# Altium schematic symbol library LPC4300.SCHLIB: 5 symbols
Pins are listed as number, name and electrical type; pins without a type are passive.

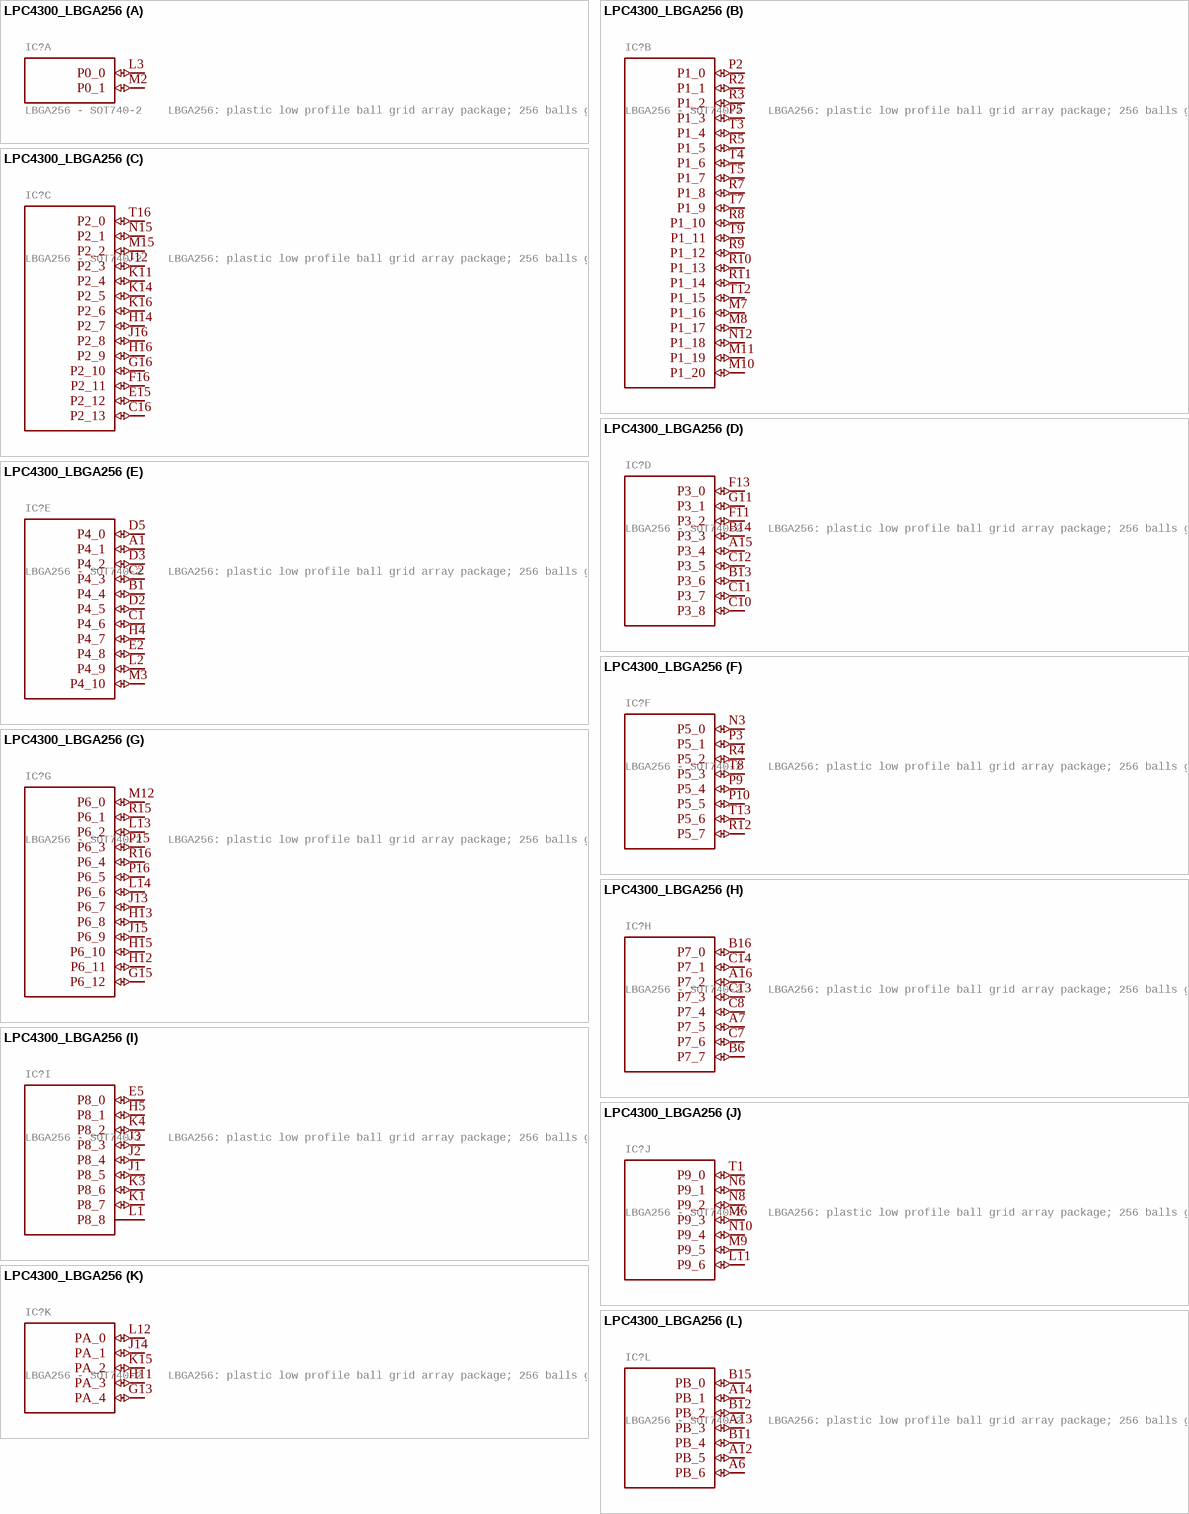
[diagram p0: symbol LPC4300_LBGA256]

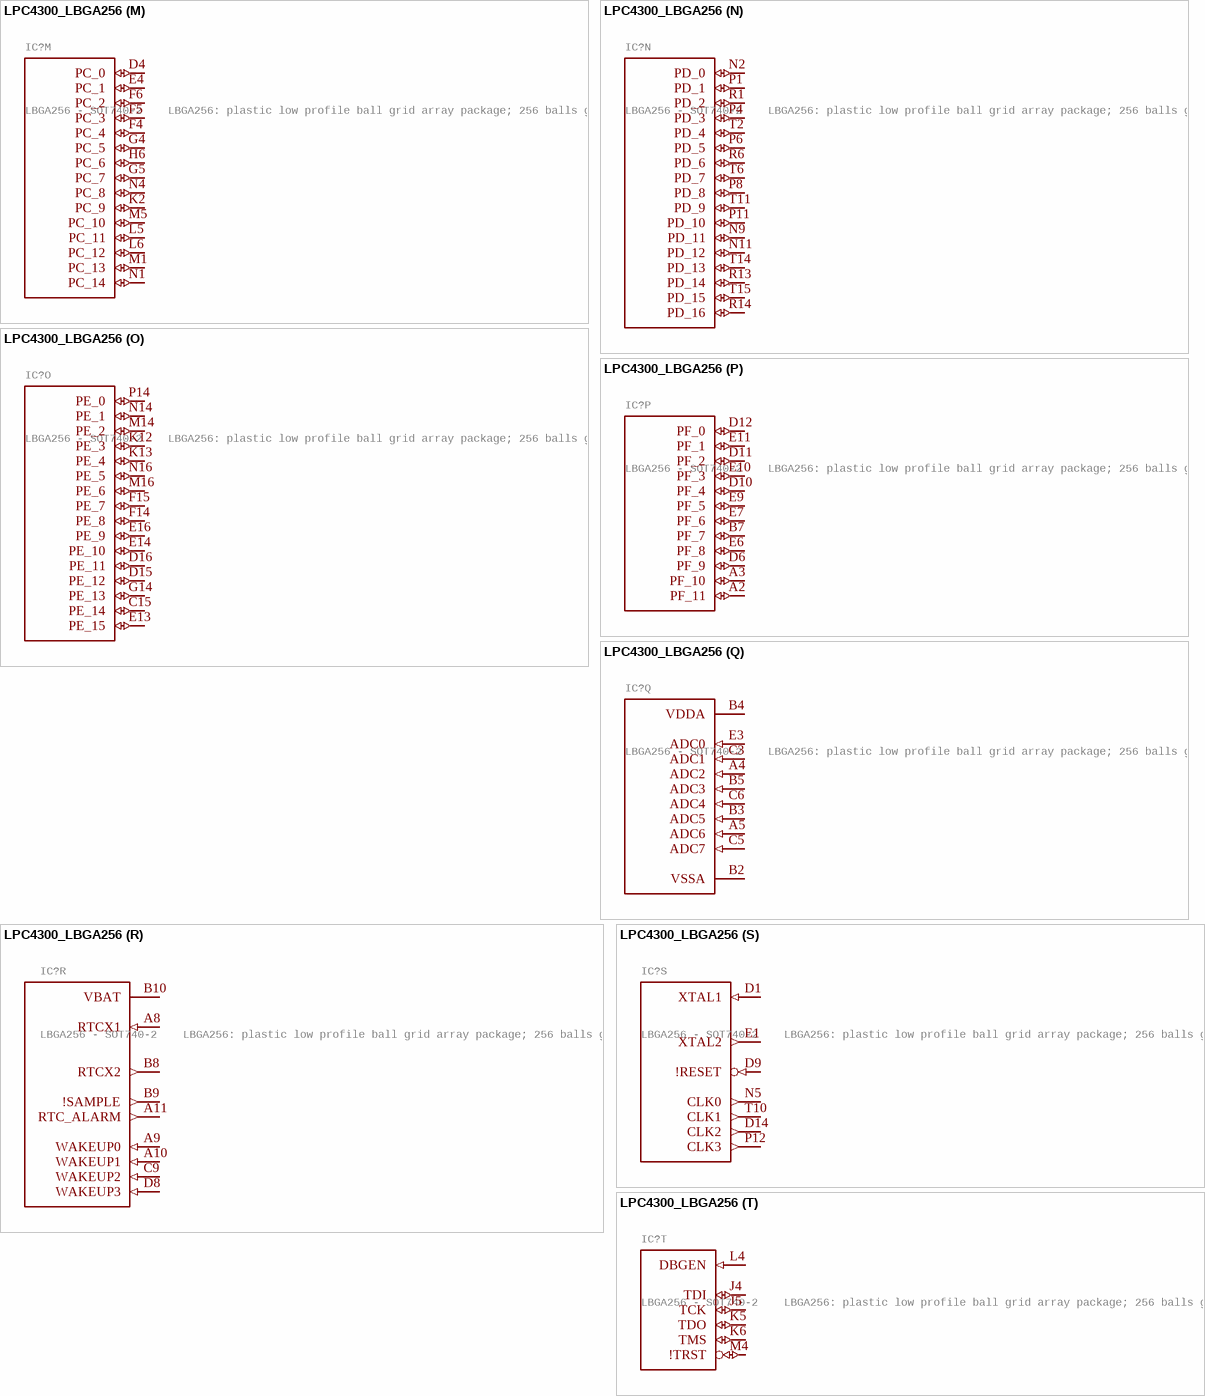
[diagram p1: symbol LPC4300_LBGA256]

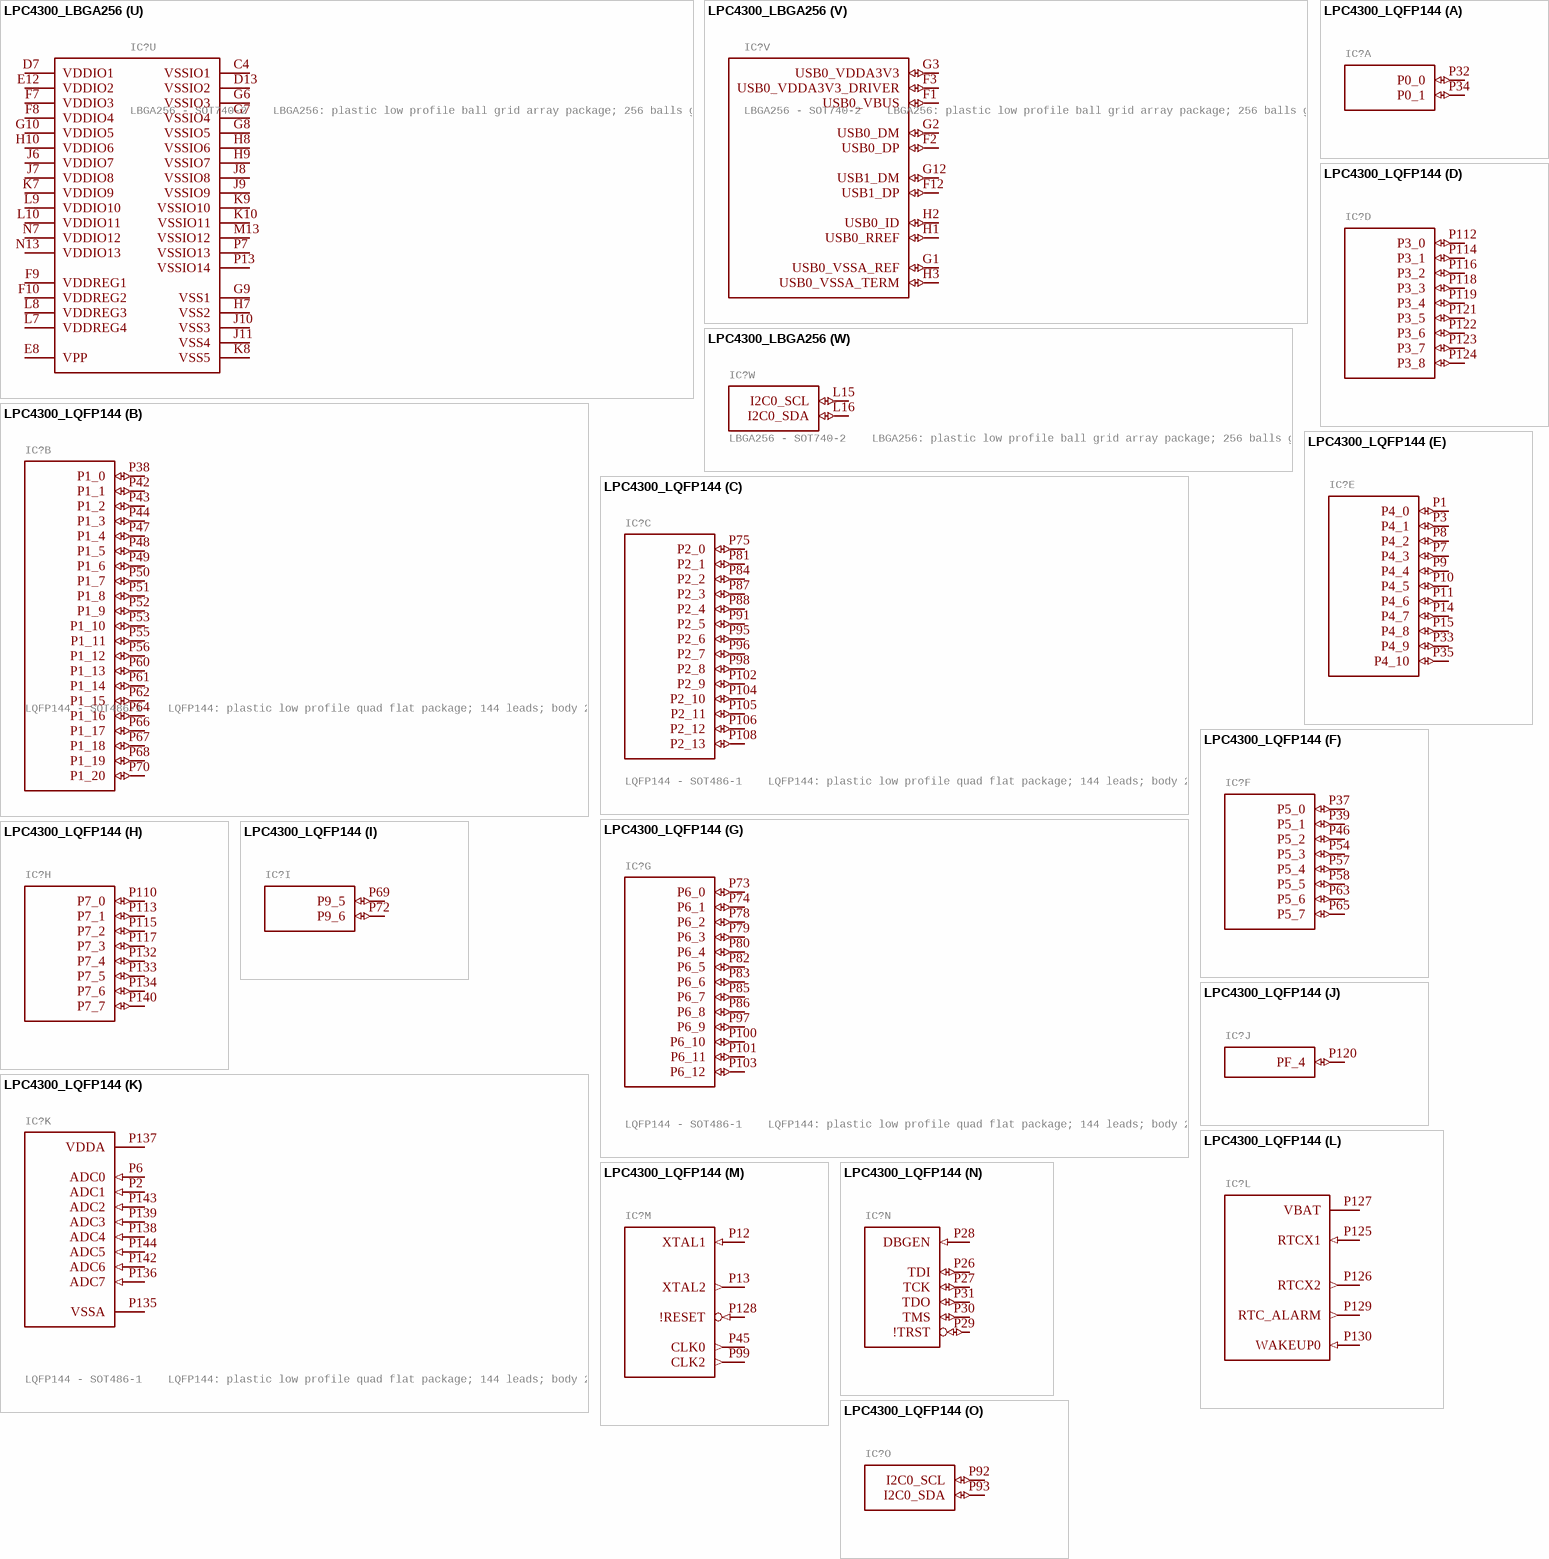
[diagram p2: symbols LPC4300_LBGA256 to LPC4300_LQFP144]

## LPC4300_LBGA256
designator IC?, comment LBGA256 - SOT740-2    LBGA256: plastic low profile ball grid array package; 256 balls grid 1 * 1 mm;    body 17 * 17 mm;   Solderland 0.45 mm diameter
GateName_1: G$1; SymbolName_1: LPC4300_0_PORT0; GateName_2: G$2; SymbolName_2: LPC4300_1_PORT1; GateName_3: G$3; SymbolName_3: LPC4300_2_PORT2; GateName_4: G$4; SymbolName_4: LPC4300_3_PORT3; GateName_5: G$5; SymbolName_5: LPC4300_4_PORT4; GateName_6: G$6; SymbolName_6: LPC4300_5_PORT5; GateName_7: G$7; SymbolName_7: LPC4300_6_PORT6; GateName_8: G$8; SymbolName_8: LPC4300_7_PORT7; GateName_9: G$9; SymbolName_9: LPC4300_8_PORT8; GateName_10: G$10; SymbolName_10: LPC4300_9_PORT9; GateName_11: G$11; SymbolName_11: LPC4300_10_PORTA; GateName_12: G$12; SymbolName_12: LPC4300_11_PORTB; GateName_13: G$13; SymbolName_13: LPC4300_12_PORTC; GateName_14: G$14; SymbolName_14: LPC4300_13_PORTD; GateName_15: G$15; SymbolName_15: LPC4300_14_PORTE; GateName_16: G$16; SymbolName_16: LPC4300_15_PORTF; GateName_17: G$17; SymbolName_17: LPC4300_16_ANA; GateName_18: G$18; SymbolName_18: LPC4300_17_RTC; GateName_19: G$19; SymbolName_19: LPC4300_18_CLK; GateName_20: G$20; SymbolName_20: LPC4300_19_DBUG; GateName_21: G$21; SymbolName_21: LPC4300_21_SUP; GateName_22: G$22; SymbolName_22: LPC4300_22_USB; GateName_23: G$23; SymbolName_23: LPC4300_20_I2C; DeviceSetName: LPC4300_LBGA256; LibraryName: LPC4300; Package: LBGA256
footprint LBGA256
part A pins: L3 P0_0 (io), M2 P0_1 (io)
part B pins: M7 P1_16 (io), M8 P1_17 (io), M10 P1_20 (io), M11 P1_19 (io), N12 P1_18 (io), P2 P1_0 (io), P5 P1_3 (io), R2 P1_1 (io), R3 P1_2 (io), R5 P1_5 (io), R7 P1_8 (io), R8 P1_10 (io), R9 P1_12 (io), R10 P1_13 (io), R11 P1_14 (io), T3 P1_4 (io), T4 P1_6 (io), T5 P1_7 (io), T7 P1_9 (io), T9 P1_11 (io), T12 P1_15 (io)
part C pins: C16 P2_13 (io), E15 P2_12 (io), F16 P2_11 (io), G16 P2_10 (io), H14 P2_7 (io), H16 P2_9 (io), J12 P2_3 (io), J16 P2_8 (io), K11 P2_4 (io), K14 P2_5 (io), K16 P2_6 (io), M15 P2_2 (io), N15 P2_1 (io), T16 P2_0 (io)
part D pins: A15 P3_4 (io), B13 P3_6 (io), B14 P3_3 (io), C10 P3_8 (io), C11 P3_7 (io), C12 P3_5 (io), F11 P3_2 (io), F13 P3_0 (io), G11 P3_1 (io)
part E pins: A1 P4_1 (io), B1 P4_4 (io), C1 P4_6 (io), C2 P4_3 (io), D2 P4_5 (io), D3 P4_2 (io), D5 P4_0 (io), E2 P4_8 (io), H4 P4_7 (io), L2 P4_9 (io), M3 P4_10 (io)
part F pins: N3 P5_0 (io), P3 P5_1 (io), P9 P5_4 (io), P10 P5_5 (io), R4 P5_2 (io), R12 P5_7 (io), T8 P5_3 (io), T13 P5_6 (io)
part G pins: G15 P6_12 (io), H12 P6_11 (io), H13 P6_8 (io), H15 P6_10 (io), J13 P6_7 (io), J15 P6_9 (io), L13 P6_2 (io), L14 P6_6 (io), M12 P6_0 (io), P15 P6_3 (io), P16 P6_5 (io), R15 P6_1 (io), R16 P6_4 (io)
part H pins: A7 P7_5 (io), A16 P7_2 (io), B6 P7_7 (io), B16 P7_0 (io), C7 P7_6 (io), C8 P7_4 (io), C13 P7_3 (io), C14 P7_1 (io)
part I pins: E5 P8_0 (io), H5 P8_1 (io), J1 P8_5 (io), J2 P8_4 (io), J3 P8_3 (io), K1 P8_7 (io), K3 P8_6 (io), K4 P8_2 (io), L1 P8_8 (power)
part J pins: L11 P9_6 (io), M6 P9_3 (io), M9 P9_5 (io), N6 P9_1 (io), N8 P9_2 (io), N10 P9_4 (io), T1 P9_0 (io)
part K pins: G13 PA_4 (io), H11 PA_3 (io), J14 PA_1 (io), K15 PA_2 (io), L12 PA_0 (io)
part L pins: A6 PB_6 (io), A12 PB_5 (io), A13 PB_3 (io), A14 PB_1 (io), B11 PB_4 (io), B12 PB_2 (io), B15 PB_0 (io)
part M pins: D4 PC_0 (io), E4 PC_1 (io), F4 PC_4 (io), F5 PC_3 (io), F6 PC_2 (io), G4 PC_5 (io), G5 PC_7 (io), H6 PC_6 (io), K2 PC_9 (io), L5 PC_11 (io), L6 PC_12 (io), M1 PC_13 (io), M5 PC_10 (io), N1 PC_14 (io), N4 PC_8 (io)
part N pins: N2 PD_0 (io), N9 PD_11 (io), N11 PD_12 (io), P1 PD_1 (io), P4 PD_3 (io), P6 PD_5 (io), P8 PD_8 (io), P11 PD_10 (io), R1 PD_2 (io), R6 PD_6 (io), R13 PD_14 (io), R14 PD_16 (io), T2 PD_4 (io), T6 PD_7 (io), T11 PD_9 (io), T14 PD_13 (io), T15 PD_15 (io)
part O pins: C15 PE_14 (io), D15 PE_12 (io), D16 PE_11 (io), E13 PE_15 (io), E14 PE_10 (io), E16 PE_9 (io), F14 PE_8 (io), F15 PE_7 (io), G14 PE_13 (io), K12 PE_3 (io), K13 PE_4 (io), M14 PE_2 (io), M16 PE_6 (io), N14 PE_1 (io), N16 PE_5 (io), P14 PE_0 (io)
part P pins: A2 PF_11 (io), A3 PF_10 (io), B7 PF_7 (io), D6 PF_9 (io), D10 PF_4 (io), D11 PF_2 (io), D12 PF_0 (io), E6 PF_8 (io), E7 PF_6 (io), E9 PF_5 (io), E10 PF_3 (io), E11 PF_1 (io)
part Q pins: A4 ADC2 (in), A5 ADC6 (in), B2 VSSA (power), B3 ADC5 (in), B4 VDDA (power), B5 ADC3 (in), C3 ADC1 (in), C5 ADC7 (in), C6 ADC4 (in), E3 ADC0 (in)
part R pins: A8 RTCX1 (in), A9 WAKEUP0 (in), A10 WAKEUP1 (in), A11 RTC_ALARM (out), B8 RTCX2 (out), B9 !SAMPLE (out), B10 VBAT (power), C9 WAKEUP2 (in), D8 WAKEUP3 (in)
part S pins: D1 XTAL1 (in), D9 !RESET (in), D14 CLK2 (out), E1 XTAL2 (out), N5 CLK0 (out), P12 CLK3 (out), T10 CLK1 (out)
part T pins: J4 TDI (io), J5 TCK (io), K5 TDO (io), K6 TMS (io), L4 DBGEN (in), M4 !TRST (io)
part U pins: C4 VSSIO1 (power), D7 VDDIO1 (power), D13 VSSIO2 (power), E8 VPP (power), E12 VDDIO2 (power), F7 VDDIO3 (power), F8 VDDIO4 (power), F9 VDDREG1 (power), F10 VDDREG2 (power), G6 VSSIO3 (power), G7 VSSIO4 (power), G8 VSSIO5 (power), G9 VSS1 (power), G10 VDDIO5 (power), H7 VSS2 (power), H8 VSSIO6 (power), H9 VSSIO7 (power), H10 VDDIO6 (power), J6 VDDIO7 (power), J7 VDDIO8 (power), J8 VSSIO8 (power), J9 VSSIO9 (power), J10 VSS3 (power), J11 VSS4 (power), K7 VDDIO9 (power), K8 VSS5 (power), K9 VSSIO10 (power), K10 VSSIO11 (power), L7 VDDREG4 (power), L8 VDDREG3 (power), L9 VDDIO10 (power), L10 VDDIO11 (power), M13 VSSIO12 (power), N7 VDDIO12 (power), N13 VDDIO13 (power), P7 VSSIO13 (power), P13 VSSIO14 (power)
part V pins: F1 USB0_VBUS (io), F2 USB0_DP (io), F3 USB0_VDDA3V3_DRIVER (io), F12 USB1_DP (io), G1 USB0_VSSA_REF (io), G2 USB0_DM (io), G3 USB0_VDDA3V3 (io), G12 USB1_DM (io), H1 USB0_RREF (io), H2 USB0_ID (io), H3 USB0_VSSA_TERM (io)
part W pins: L15 I2C0_SCL (io), L16 I2C0_SDA (io)

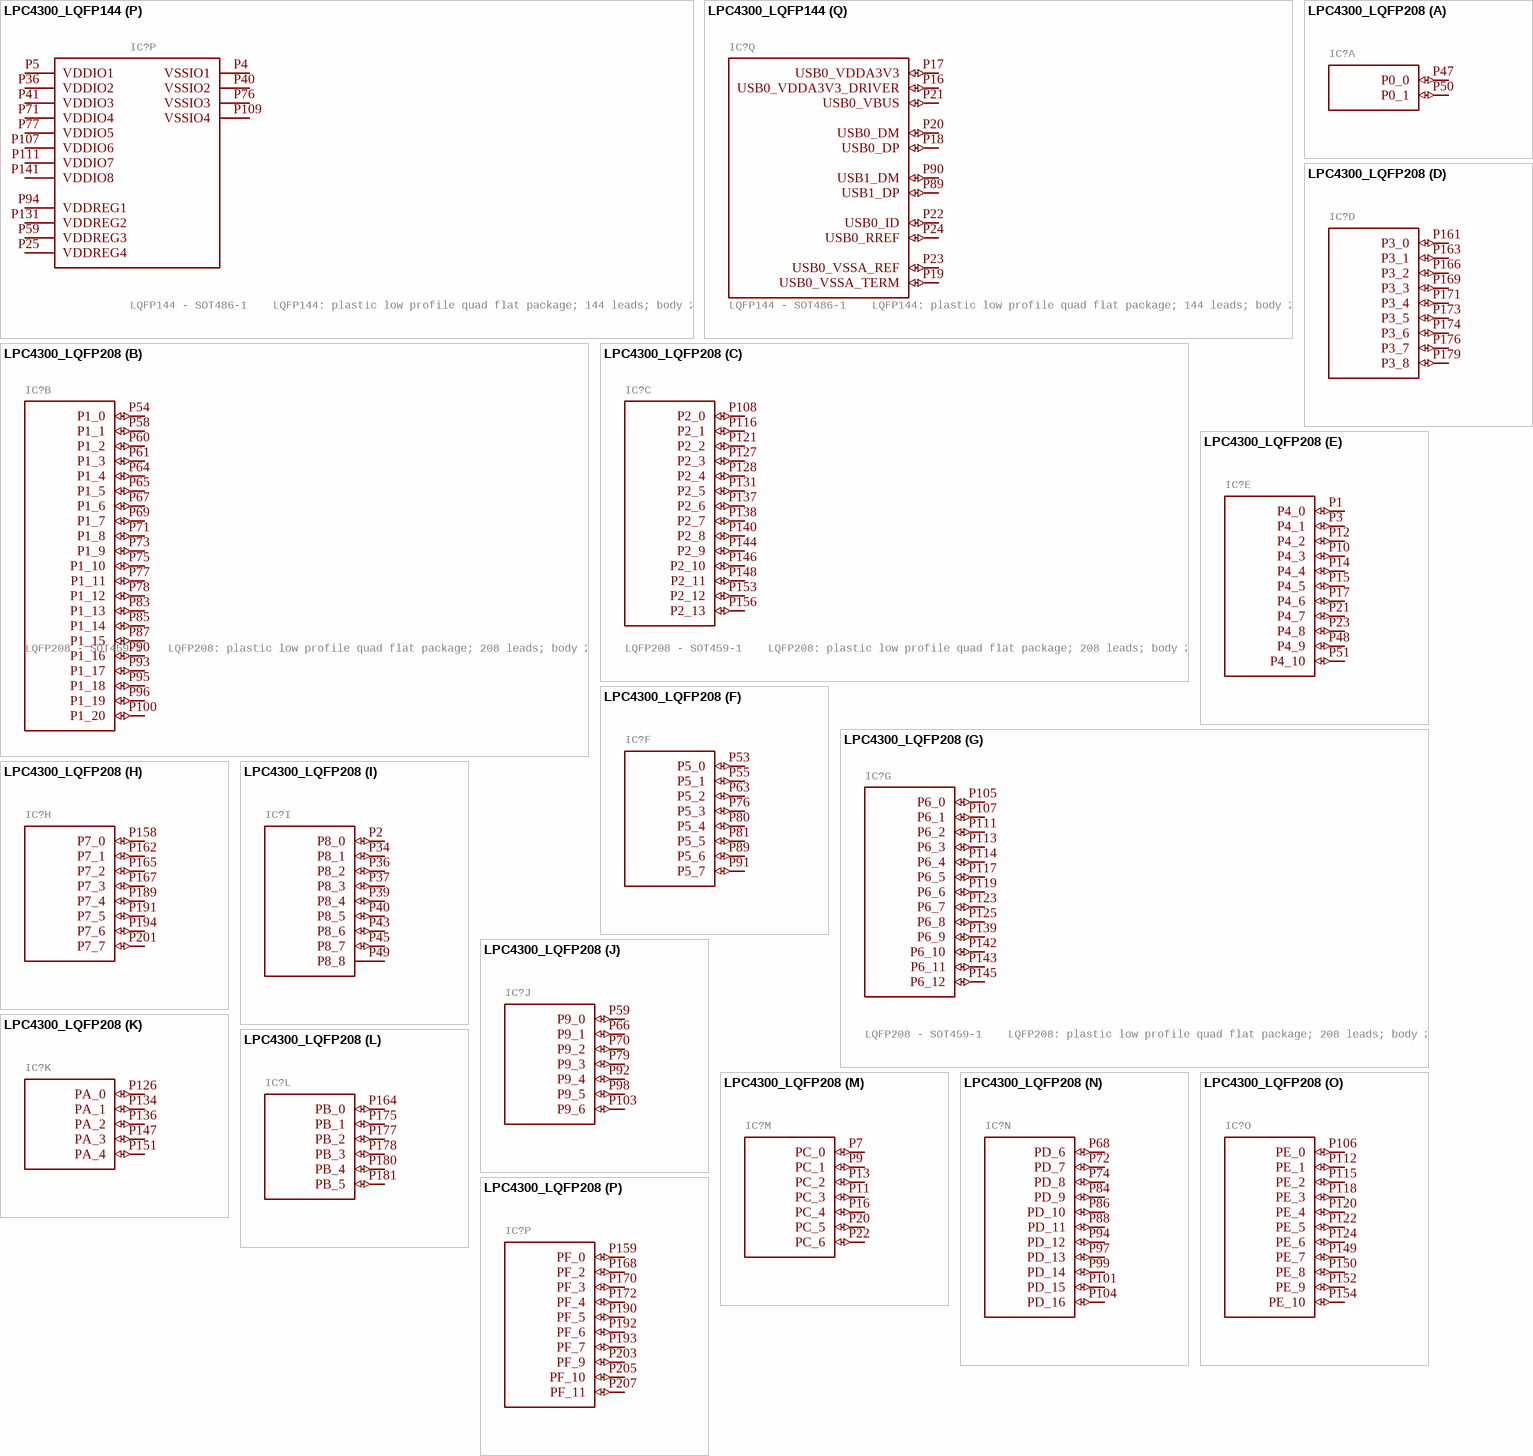
[diagram p3: symbols LPC4300_LQFP144 to LPC4300_LQFP208]

## LPC4300_LQFP144
designator IC?, comment LQFP144 - SOT486-1    LQFP144: plastic low profile quad flat package; 144 leads; body 20 x 20 x 1.4 mm    body + leads 22 x 22 mm   Solderland (pads) 0.4 x 1.5 mm on corners (8 x) and 0.28 x 1.5 mm (136 x)
GateName_1: G$1; SymbolName_1: 144_0_PORT0; GateName_2: G$2; SymbolName_2: 144_1_PORT1; GateName_3: G$3; SymbolName_3: 144_2_PORT2; GateName_4: G$4; SymbolName_4: 144_3_PORT3; GateName_5: G$5; SymbolName_5: 144_4_PORT4; GateName_6: G$6; SymbolName_6: 144_5_PORT5; GateName_7: G$7; SymbolName_7: 144_6_PORT6; GateName_8: G$8; SymbolName_8: 144_7_PORT7; GateName_9: G$9; SymbolName_9: 144_9_PORT9; GateName_10: G$10; SymbolName_10: 144_15_PORTF; GateName_11: G$11; SymbolName_11: 144_16_ANA; GateName_12: G$12; SymbolName_12: 144_17_RTC; GateName_13: G$13; SymbolName_13: 144_18_CLK; GateName_14: G$14; SymbolName_14: 144_19_DBUG; GateName_15: G$15; SymbolName_15: 144_20_I2C; GateName_16: G$16; SymbolName_16: 144_21_SUP; GateName_17: G$17; SymbolName_17: 144_22_USB; DeviceSetName: LPC4300_LQFP144; LibraryName: LPC4300; Package: LQFP144
footprint LQFP144
part A pins: P32 P0_0 (io), P34 P0_1 (io)
part B pins: P38 P1_0 (io), P42 P1_1 (io), P43 P1_2 (io), P44 P1_3 (io), P47 P1_4 (io), P48 P1_5 (io), P49 P1_6 (io), P50 P1_7 (io), P51 P1_8 (io), P52 P1_9 (io), P53 P1_10 (io), P55 P1_11 (io), P56 P1_12 (io), P60 P1_13 (io), P61 P1_14 (io), P62 P1_15 (io), P64 P1_16 (io), P66 P1_17 (io), P67 P1_18 (io), P68 P1_19 (io), P70 P1_20 (io)
part C pins: P75 P2_0 (io), P81 P2_1 (io), P84 P2_2 (io), P87 P2_3 (io), P88 P2_4 (io), P91 P2_5 (io), P95 P2_6 (io), P96 P2_7 (io), P98 P2_8 (io), P102 P2_9 (io), P104 P2_10 (io), P105 P2_11 (io), P106 P2_12 (io), P108 P2_13 (io)
part D pins: P112 P3_0 (io), P114 P3_1 (io), P116 P3_2 (io), P118 P3_3 (io), P119 P3_4 (io), P121 P3_5 (io), P122 P3_6 (io), P123 P3_7 (io), P124 P3_8 (io)
part E pins: P1 P4_0 (io), P3 P4_1 (io), P7 P4_3 (io), P8 P4_2 (io), P9 P4_4 (io), P10 P4_5 (io), P11 P4_6 (io), P14 P4_7 (io), P15 P4_8 (io), P33 P4_9 (io), P35 P4_10 (io)
part F pins: P37 P5_0 (io), P39 P5_1 (io), P46 P5_2 (io), P54 P5_3 (io), P57 P5_4 (io), P58 P5_5 (io), P63 P5_6 (io), P65 P5_7 (io)
part G pins: P73 P6_0 (io), P74 P6_1 (io), P78 P6_2 (io), P79 P6_3 (io), P80 P6_4 (io), P82 P6_5 (io), P83 P6_6 (io), P85 P6_7 (io), P86 P6_8 (io), P97 P6_9 (io), P100 P6_10 (io), P101 P6_11 (io), P103 P6_12 (io)
part H pins: P110 P7_0 (io), P113 P7_1 (io), P115 P7_2 (io), P117 P7_3 (io), P132 P7_4 (io), P133 P7_5 (io), P134 P7_6 (io), P140 P7_7 (io)
part I pins: P69 P9_5 (io), P72 P9_6 (io)
part J pins: P120 PF_4 (io)
part K pins: P2 ADC1 (in), P6 ADC0 (in), P135 VSSA (power), P136 ADC7 (in), P137 VDDA (power), P138 ADC4 (in), P139 ADC3 (in), P142 ADC6 (in), P143 ADC2 (in), P144 ADC5 (in)
part L pins: P125 RTCX1 (in), P126 RTCX2 (out), P127 VBAT (power), P129 RTC_ALARM (out), P130 WAKEUP0 (in)
part M pins: P12 XTAL1 (in), P13 XTAL2 (out), P45 CLK0 (out), P99 CLK2 (out), P128 !RESET (in)
part N pins: P26 TDI (io), P27 TCK (io), P28 DBGEN (in), P29 !TRST (io), P30 TMS (io), P31 TDO (io)
part O pins: P92 I2C0_SCL (io), P93 I2C0_SDA (io)
part P pins: P4 VSSIO1 (power), P5 VDDIO1 (power), P25 VDDREG4 (power), P36 VDDIO2 (power), P40 VSSIO2 (power), P41 VDDIO3 (power), P59 VDDREG3 (power), P71 VDDIO4 (power), P76 VSSIO3 (power), P77 VDDIO5 (power), P94 VDDREG1 (power), P107 VDDIO6 (power), P109 VSSIO4 (power), P111 VDDIO7 (power), P131 VDDREG2 (power), P141 VDDIO8 (power)
part Q pins: P16 USB0_VDDA3V3_DRIVER (io), P17 USB0_VDDA3V3 (io), P18 USB0_DP (io), P19 USB0_VSSA_TERM (io), P20 USB0_DM (io), P21 USB0_VBUS (io), P22 USB0_ID (io), P23 USB0_VSSA_REF (io), P24 USB0_RREF (io), P89 USB1_DP (io), P90 USB1_DM (io)

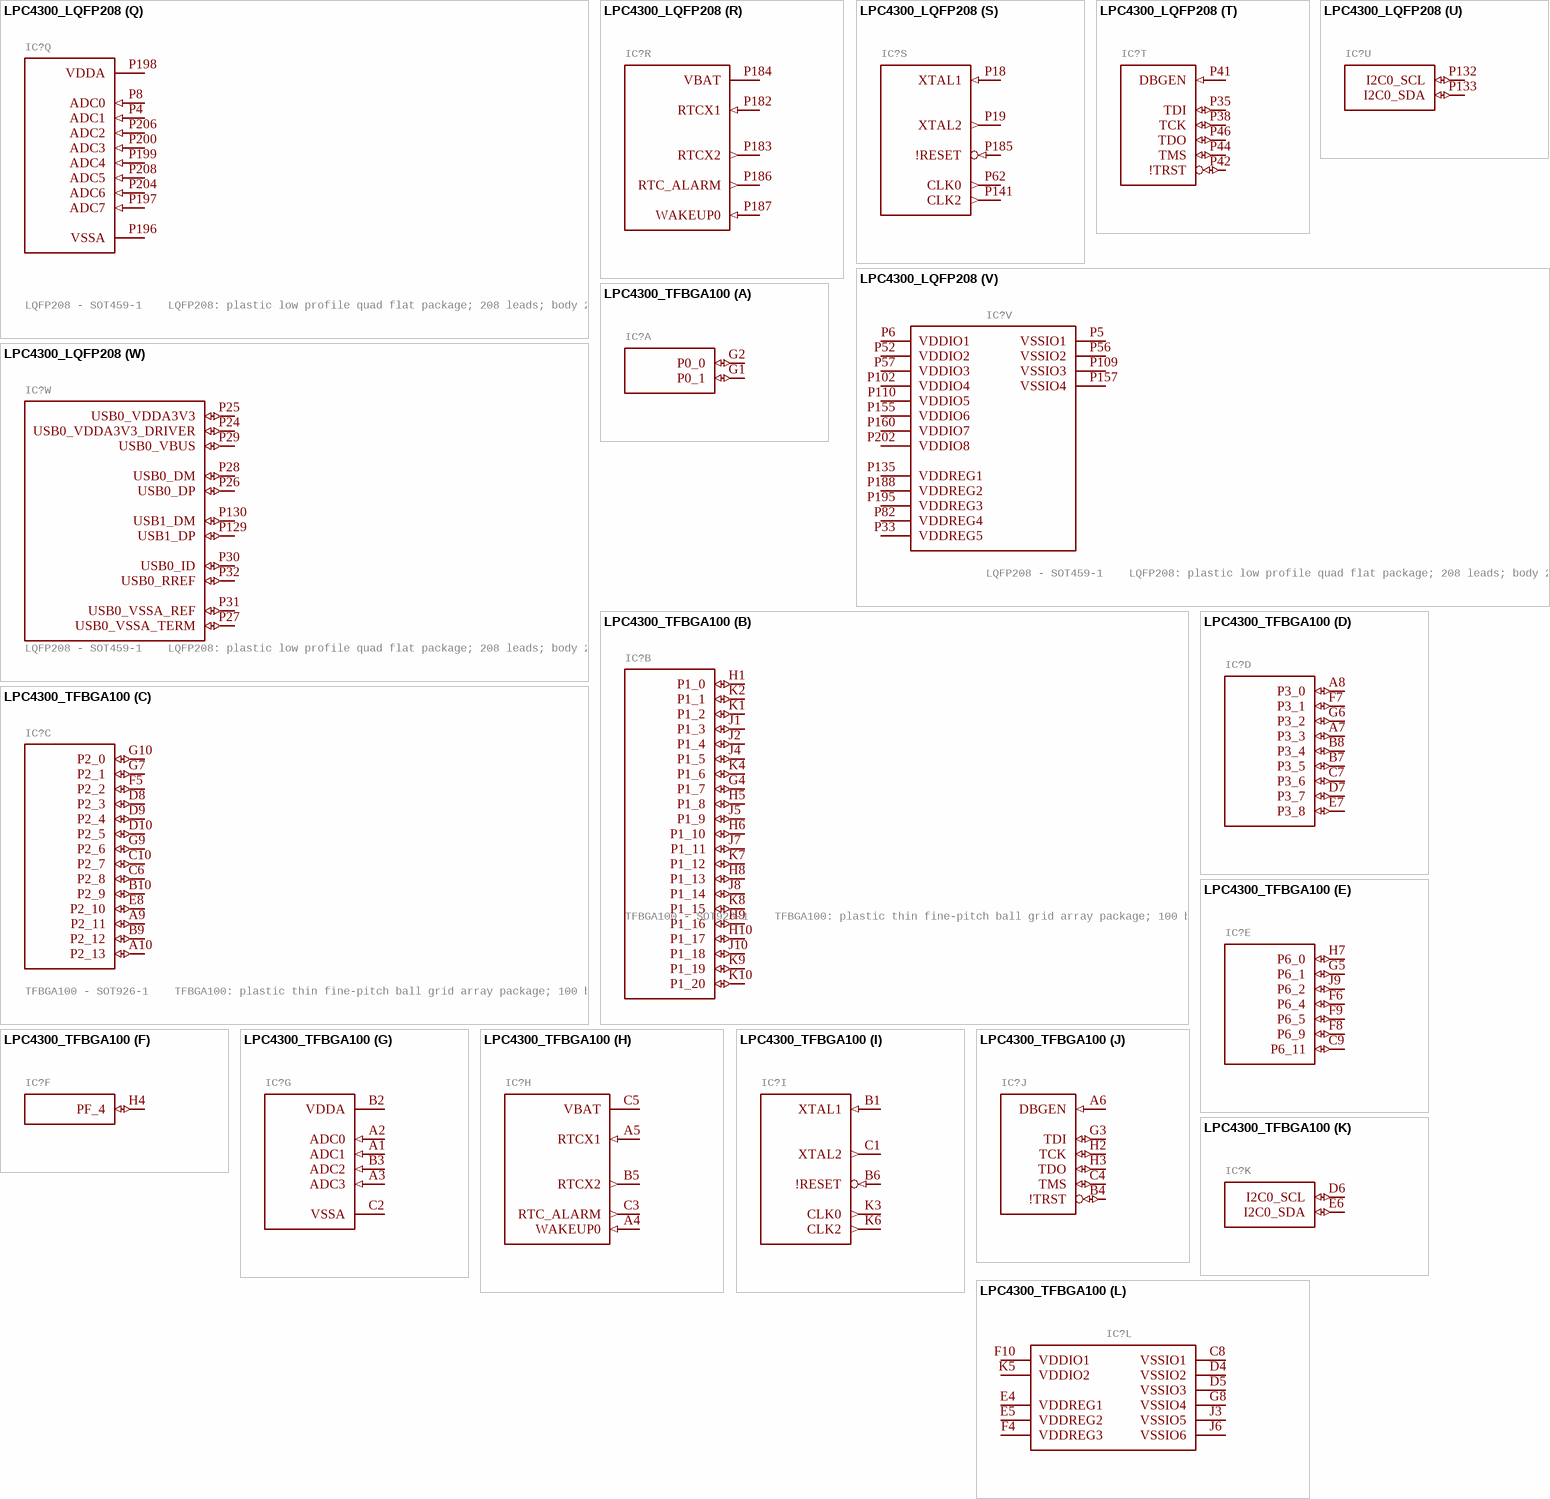
[diagram p4: symbols LPC4300_LQFP208 to LPC4300_TFBGA100]

## LPC4300_LQFP208
designator IC?, comment LQFP208 - SOT459-1    LQFP208: plastic low profile quad flat package; 208 leads; body 28 x 28 x 1.4 mm    body + leads 30 x 30 mm   Solderland (pads) 0.4 x 1.5 mm on corners (8 x) and 0.28 x 1.5 mm (200 x)
GateName_1: G$1; SymbolName_1: 208_1_PORT0; GateName_2: G$2; SymbolName_2: 208_2_PORT1; GateName_3: G$3; SymbolName_3: 208_3_PORT2; GateName_4: G$4; SymbolName_4: 208_4_PORT3; GateName_5: G$5; SymbolName_5: 208_5_PORT4; GateName_6: G$6; SymbolName_6: 208_6_PORT5; GateName_7: G$7; SymbolName_7: 208_7_PORT6; GateName_8: G$8; SymbolName_8: 208_8_PORT7; GateName_9: G$9; SymbolName_9: 208_9_PORT8; GateName_10: G$10; SymbolName_10: 208_10_PORT9; GateName_11: G$11; SymbolName_11: 208_11_PORTA; GateName_12: G$12; SymbolName_12: 208_12_PORTB; GateName_13: G$13; SymbolName_13: 208_13_PORTC; GateName_14: G$14; SymbolName_14: 208_14_PORTD; GateName_15: G$15; SymbolName_15: 208_15_PORTE; GateName_16: G$16; SymbolName_16: 208_16_PORTF; GateName_17: G$17; SymbolName_17: 208_17_ANA; GateName_18: G$18; SymbolName_18: 208_18_RTC; GateName_19: G$19; SymbolName_19: 208_19_CLK; GateName_20: G$20; SymbolName_20: 208_20_DBUG; GateName_21: G$21; SymbolName_21: 208_21_I2C; GateName_22: G$22; SymbolName_22: 208_22_SUP; GateName_23: G$23; SymbolName_23: 208_23_USB; DeviceSetName: LPC4300_LQFP208; LibraryName: LPC4300; Package: LQFP208
footprint LQFP208
part A pins: P47 P0_0 (io), P50 P0_1 (io)
part B pins: P54 P1_0 (io), P58 P1_1 (io), P60 P1_2 (io), P61 P1_3 (io), P64 P1_4 (io), P65 P1_5 (io), P67 P1_6 (io), P69 P1_7 (io), P71 P1_8 (io), P73 P1_9 (io), P75 P1_10 (io), P77 P1_11 (io), P78 P1_12 (io), P83 P1_13 (io), P85 P1_14 (io), P87 P1_15 (io), P90 P1_16 (io), P93 P1_17 (io), P95 P1_18 (io), P96 P1_19 (io), P100 P1_20 (io)
part C pins: P108 P2_0 (io), P116 P2_1 (io), P121 P2_2 (io), P127 P2_3 (io), P128 P2_4 (io), P131 P2_5 (io), P137 P2_6 (io), P138 P2_7 (io), P140 P2_8 (io), P144 P2_9 (io), P146 P2_10 (io), P148 P2_11 (io), P153 P2_12 (io), P156 P2_13 (io)
part D pins: P161 P3_0 (io), P163 P3_1 (io), P166 P3_2 (io), P169 P3_3 (io), P171 P3_4 (io), P173 P3_5 (io), P174 P3_6 (io), P176 P3_7 (io), P179 P3_8 (io)
part E pins: P1 P4_0 (io), P3 P4_1 (io), P10 P4_3 (io), P12 P4_2 (io), P14 P4_4 (io), P15 P4_5 (io), P17 P4_6 (io), P21 P4_7 (io), P23 P4_8 (io), P48 P4_9 (io), P51 P4_10 (io)
part F pins: P53 P5_0 (io), P55 P5_1 (io), P63 P5_2 (io), P76 P5_3 (io), P80 P5_4 (io), P81 P5_5 (io), P89 P5_6 (io), P91 P5_7 (io)
part G pins: P105 P6_0 (io), P107 P6_1 (io), P111 P6_2 (io), P113 P6_3 (io), P114 P6_4 (io), P117 P6_5 (io), P119 P6_6 (io), P123 P6_7 (io), P125 P6_8 (io), P139 P6_9 (io), P142 P6_10 (io), P143 P6_11 (io), P145 P6_12 (io)
part H pins: P158 P7_0 (io), P162 P7_1 (io), P165 P7_2 (io), P167 P7_3 (io), P189 P7_4 (io), P191 P7_5 (io), P194 P7_6 (io), P201 P7_7 (io)
part I pins: P2 P8_0 (io), P34 P8_1 (io), P36 P8_2 (io), P37 P8_3 (io), P39 P8_4 (io), P40 P8_5 (io), P43 P8_6 (io), P45 P8_7 (io), P49 P8_8 (power)
part J pins: P59 P9_0 (io), P66 P9_1 (io), P70 P9_2 (io), P79 P9_3 (io), P92 P9_4 (io), P98 P9_5 (io), P103 P9_6 (io)
part K pins: P126 PA_0 (io), P134 PA_1 (io), P136 PA_2 (io), P147 PA_3 (io), P151 PA_4 (io)
part L pins: P164 PB_0 (io), P175 PB_1 (io), P177 PB_2 (io), P178 PB_3 (io), P180 PB_4 (io), P181 PB_5 (io)
part M pins: P7 PC_0 (io), P9 PC_1 (io), P11 PC_3 (io), P13 PC_2 (io), P16 PC_4 (io), P20 PC_5 (io), P22 PC_6 (io)
part N pins: P68 PD_6 (io), P72 PD_7 (io), P74 PD_8 (io), P84 PD_9 (io), P86 PD_10 (io), P88 PD_11 (io), P94 PD_12 (io), P97 PD_13 (io), P99 PD_14 (io), P101 PD_15 (io), P104 PD_16 (io)
part O pins: P106 PE_0 (io), P112 PE_1 (io), P115 PE_2 (io), P118 PE_3 (io), P120 PE_4 (io), P122 PE_5 (io), P124 PE_6 (io), P149 PE_7 (io), P150 PE_8 (io), P152 PE_9 (io), P154 PE_10 (io)
part P pins: P159 PF_0 (io), P168 PF_2 (io), P170 PF_3 (io), P172 PF_4 (io), P190 PF_5 (io), P192 PF_6 (io), P193 PF_7 (io), P203 PF_9 (io), P205 PF_10 (io), P207 PF_11 (io)
part Q pins: P4 ADC1 (in), P8 ADC0 (in), P196 VSSA (power), P197 ADC7 (in), P198 VDDA (power), P199 ADC4 (in), P200 ADC3 (in), P204 ADC6 (in), P206 ADC2 (in), P208 ADC5 (in)
part R pins: P182 RTCX1 (in), P183 RTCX2 (out), P184 VBAT (power), P186 RTC_ALARM (out), P187 WAKEUP0 (in)
part S pins: P18 XTAL1 (in), P19 XTAL2 (out), P62 CLK0 (out), P141 CLK2 (out), P185 !RESET (in)
part T pins: P35 TDI (io), P38 TCK (io), P41 DBGEN (in), P42 !TRST (io), P44 TMS (io), P46 TDO (io)
part U pins: P132 I2C0_SCL (io), P133 I2C0_SDA (io)
part V pins: P5 VSSIO1 (power), P6 VDDIO1 (power), P33 VDDREG5 (power), P52 VDDIO2 (power), P56 VSSIO2 (power), P57 VDDIO3 (power), P82 VDDREG4 (power), P102 VDDIO4 (power), P109 VSSIO3 (power), P110 VDDIO5 (power), P135 VDDREG1 (power), P155 VDDIO6 (power), P157 VSSIO4 (power), P160 VDDIO7 (power), P188 VDDREG2 (power), P195 VDDREG3 (power), P202 VDDIO8 (power)
part W pins: P24 USB0_VDDA3V3_DRIVER (io), P25 USB0_VDDA3V3 (io), P26 USB0_DP (io), P27 USB0_VSSA_TERM (io), P28 USB0_DM (io), P29 USB0_VBUS (io), P30 USB0_ID (io), P31 USB0_VSSA_REF (io), P32 USB0_RREF (io), P129 USB1_DP (io), P130 USB1_DM (io)

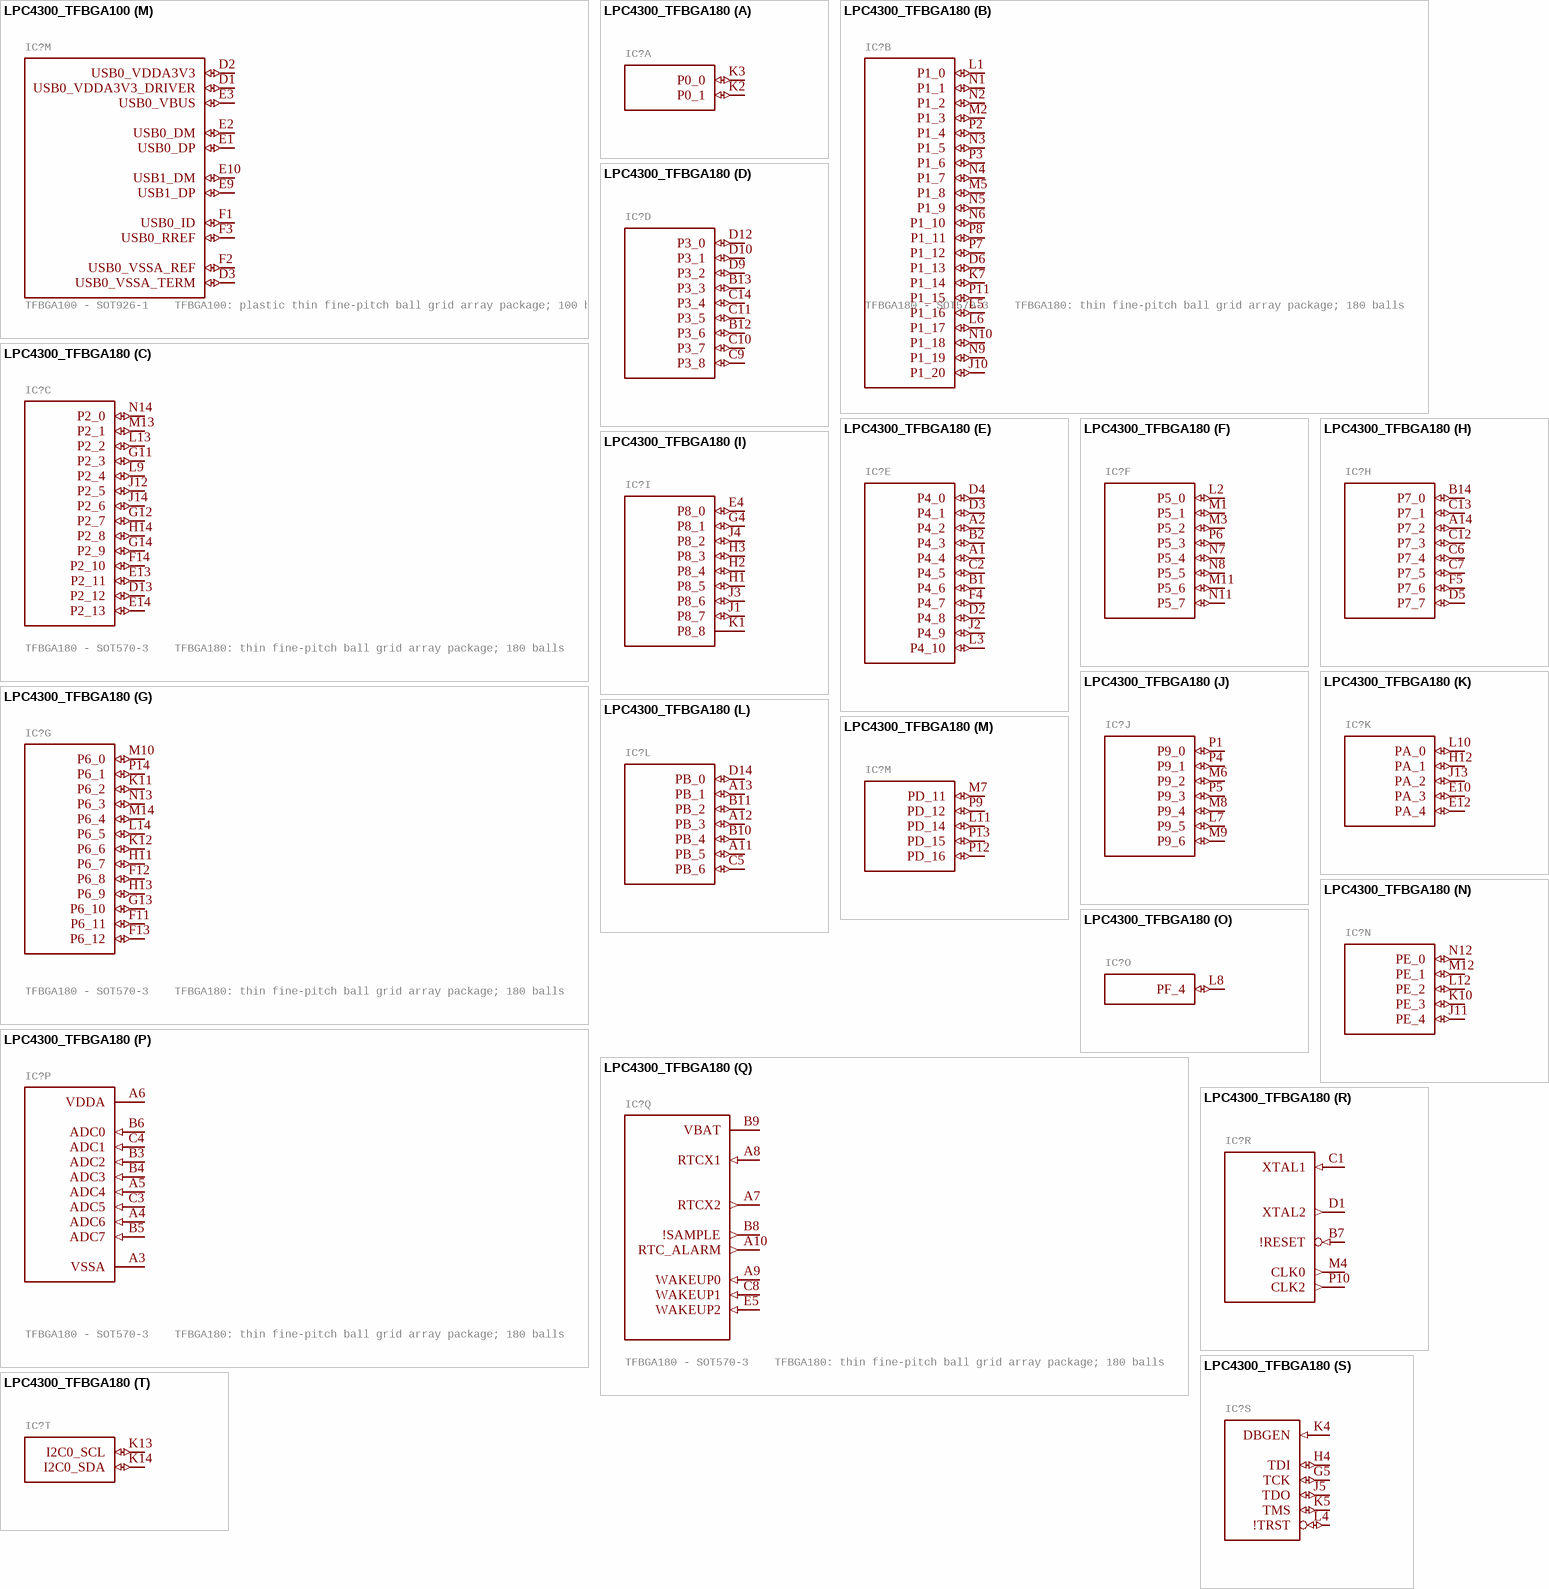
[diagram p5: symbols LPC4300_TFBGA100 to LPC4300_TFBGA180]

## LPC4300_TFBGA100
designator IC?, comment TFBGA100 - SOT926-1    TFBGA100: plastic thin fine-pitch ball grid array package; 100 balls    body 9 x 9 x 0.7 mm;   Solderland 0.40 mm diameter    Grid 0.8 x 0.8 mm
GateName_1: G$1; SymbolName_1: 100_1_PORT0; GateName_2: G$2; SymbolName_2: 100_2_PORT1; GateName_3: G$3; SymbolName_3: 100_3_PORT2; GateName_4: G$4; SymbolName_4: 100_4_PORT3; GateName_5: G$5; SymbolName_5: 100_7_PORT6; GateName_6: G$6; SymbolName_6: 100_16_PORTF; GateName_7: G$7; SymbolName_7: 100_17_ANA; GateName_8: G$8; SymbolName_8: 100_18_RTC; GateName_9: G$9; SymbolName_9: 100_19_CLK; GateName_10: G$10; SymbolName_10: 100_20_DBUG; GateName_11: G$11; SymbolName_11: 100_21_I2C; GateName_12: G$12; SymbolName_12: 100_22_SUP; GateName_13: G$13; SymbolName_13: 100_23_USB; DeviceSetName: LPC4300_TFBGA100; LibraryName: LPC4300; Package: TFBGA100
footprint TFBGA100
part A pins: G1 P0_1 (io), G2 P0_0 (io)
part B pins: G4 P1_7 (io), H1 P1_0 (io), H5 P1_8 (io), H6 P1_10 (io), H8 P1_13 (io), H9 P1_16 (io), H10 P1_17 (io), J1 P1_3 (io), J2 P1_4 (io), J4 P1_5 (io), J5 P1_9 (io), J7 P1_11 (io), J8 P1_14 (io), J10 P1_18 (io), K1 P1_2 (io), K2 P1_1 (io), K4 P1_6 (io), K7 P1_12 (io), K8 P1_15 (io), K9 P1_19 (io), K10 P1_20 (io)
part C pins: A9 P2_11 (io), A10 P2_13 (io), B9 P2_12 (io), B10 P2_9 (io), C6 P2_8 (io), C10 P2_7 (io), D8 P2_3 (io), D9 P2_4 (io), D10 P2_5 (io), E8 P2_10 (io), F5 P2_2 (io), G7 P2_1 (io), G9 P2_6 (io), G10 P2_0 (io)
part D pins: A7 P3_3 (io), A8 P3_0 (io), B7 P3_5 (io), B8 P3_4 (io), C7 P3_6 (io), D7 P3_7 (io), E7 P3_8 (io), F7 P3_1 (io), G6 P3_2 (io)
part E pins: C9 P6_11 (io), F6 P6_4 (io), F8 P6_9 (io), F9 P6_5 (io), G5 P6_1 (io), H7 P6_0 (io), J9 P6_2 (io)
part F pins: H4 PF_4 (io)
part G pins: A1 ADC1 (in), A2 ADC0 (in), A3 ADC3 (in), B2 VDDA (power), B3 ADC2 (in), C2 VSSA (power)
part H pins: A4 WAKEUP0 (in), A5 RTCX1 (in), B5 RTCX2 (out), C3 RTC_ALARM (out), C5 VBAT (power)
part I pins: B1 XTAL1 (in), B6 !RESET (in), C1 XTAL2 (out), K3 CLK0 (out), K6 CLK2 (out)
part J pins: A6 DBGEN (in), B4 !TRST (io), C4 TMS (io), G3 TDI (io), H2 TCK (io), H3 TDO (io)
part K pins: D6 I2C0_SCL (io), E6 I2C0_SDA (io)
part L pins: C8 VSSIO1 (power), D4 VSSIO2 (power), D5 VSSIO3 (power), E4 VDDREG1 (power), E5 VDDREG2 (power), F4 VDDREG3 (power), F10 VDDIO1 (power), G8 VSSIO4 (power), J3 VSSIO5 (power), J6 VSSIO6 (power), K5 VDDIO2 (power)
part M pins: D1 USB0_VDDA3V3_DRIVER (io), D2 USB0_VDDA3V3 (io), D3 USB0_VSSA_TERM (io), E1 USB0_DP (io), E2 USB0_DM (io), E3 USB0_VBUS (io), E9 USB1_DP (io), E10 USB1_DM (io), F1 USB0_ID (io), F2 USB0_VSSA_REF (io), F3 USB0_RREF (io)

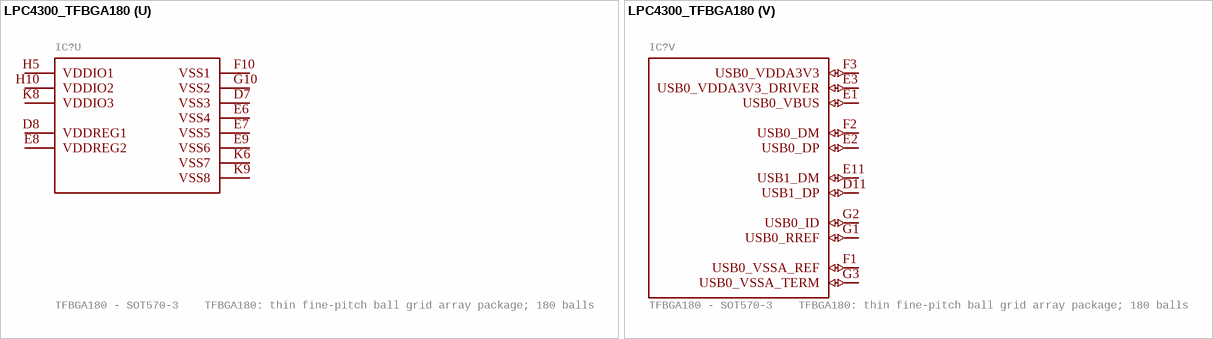
[diagram p6: symbol LPC4300_TFBGA180]

## LPC4300_TFBGA180
designator IC?, comment TFBGA180 - SOT570-3    TFBGA180: thin fine-pitch ball grid array package; 180 balls    body 12 x 12 x 0.8 mm;   Solderland 0.4 mm diameter    Grid 0.8 x 0.8 mm
GateName_1: G$1; SymbolName_1: 180_1_PORT0; GateName_2: G$2; SymbolName_2: 180_2_PORT1; GateName_3: G$3; SymbolName_3: 180_3_PORT2; GateName_4: G$4; SymbolName_4: 180_4_PORT3; GateName_5: G$5; SymbolName_5: 180_5_PORT4; GateName_6: G$6; SymbolName_6: 180_6_PORT5; GateName_7: G$7; SymbolName_7: 180_7_PORT6; GateName_8: G$8; SymbolName_8: 180_8_PORT7; GateName_9: G$9; SymbolName_9: 180_9_PORT8; GateName_10: G$10; SymbolName_10: 180_10_PORT9; GateName_11: G$11; SymbolName_11: 180_11_PORTA; GateName_12: G$12; SymbolName_12: 180_12_PORTB; GateName_13: G$13; SymbolName_13: 180_14_PORTD; GateName_14: G$14; SymbolName_14: 180_15_PORTE; GateName_15: G$15; SymbolName_15: 180_16_PORTF; GateName_16: G$16; SymbolName_16: 180_17_ANA; GateName_17: G$17; SymbolName_17: 180_18_RTC; GateName_18: G$18; SymbolName_18: 180_19_CLK; GateName_19: G$19; SymbolName_19: 180_20_DBUG; GateName_20: G$20; SymbolName_20: 180_21_I2C; GateName_21: G$21; SymbolName_21: 180_22_SUP; GateName_22: G$22; SymbolName_22: 180_23_USB; DeviceSetName: LPC4300_TFBGA180; LibraryName: LPC4300; Package: TFBGA180
footprint TFBGA180
part A pins: K2 P0_1 (io), K3 P0_0 (io)
part B pins: D6 P1_13 (io), J10 P1_20 (io), K7 P1_14 (io), L1 P1_0 (io), L5 P1_16 (io), L6 P1_17 (io), M2 P1_3 (io), M5 P1_8 (io), N1 P1_1 (io), N2 P1_2 (io), N3 P1_5 (io), N4 P1_7 (io), N5 P1_9 (io), N6 P1_10 (io), N9 P1_19 (io), N10 P1_18 (io), P2 P1_4 (io), P3 P1_6 (io), P7 P1_12 (io), P8 P1_11 (io), P11 P1_15 (io)
part C pins: D13 P2_12 (io), E13 P2_11 (io), E14 P2_13 (io), F14 P2_10 (io), G11 P2_3 (io), G12 P2_7 (io), G14 P2_9 (io), H14 P2_8 (io), J12 P2_5 (io), J14 P2_6 (io), L9 P2_4 (io), L13 P2_2 (io), M13 P2_1 (io), N14 P2_0 (io)
part D pins: B12 P3_6 (io), B13 P3_3 (io), C9 P3_8 (io), C10 P3_7 (io), C11 P3_5 (io), C14 P3_4 (io), D9 P3_2 (io), D10 P3_1 (io), D12 P3_0 (io)
part E pins: A1 P4_4 (io), A2 P4_2 (io), B1 P4_6 (io), B2 P4_3 (io), C2 P4_5 (io), D2 P4_8 (io), D3 P4_1 (io), D4 P4_0 (io), F4 P4_7 (io), J2 P4_9 (io), L3 P4_10 (io)
part F pins: L2 P5_0 (io), M1 P5_1 (io), M3 P5_2 (io), M11 P5_6 (io), N7 P5_4 (io), N8 P5_5 (io), N11 P5_7 (io), P6 P5_3 (io)
part G pins: F11 P6_11 (io), F12 P6_8 (io), F13 P6_12 (io), G13 P6_10 (io), H11 P6_7 (io), H13 P6_9 (io), K11 P6_2 (io), K12 P6_6 (io), L14 P6_5 (io), M10 P6_0 (io), M14 P6_4 (io), N13 P6_3 (io), P14 P6_1 (io)
part H pins: A14 P7_2 (io), B14 P7_0 (io), C6 P7_4 (io), C7 P7_5 (io), C12 P7_3 (io), C13 P7_1 (io), D5 P7_7 (io), F5 P7_6 (io)
part I pins: E4 P8_0 (io), G4 P8_1 (io), H1 P8_5 (io), H2 P8_4 (io), H3 P8_3 (io), J1 P8_7 (io), J3 P8_6 (io), J4 P8_2 (io), K1 P8_8 (power)
part J pins: L7 P9_5 (io), M6 P9_2 (io), M8 P9_4 (io), M9 P9_6 (io), P1 P9_0 (io), P4 P9_1 (io), P5 P9_3 (io)
part K pins: E10 PA_3 (io), E12 PA_4 (io), H12 PA_1 (io), J13 PA_2 (io), L10 PA_0 (io)
part L pins: A11 PB_5 (io), A12 PB_3 (io), A13 PB_1 (io), B10 PB_4 (io), B11 PB_2 (io), C5 PB_6 (io), D14 PB_0 (io)
part M pins: L11 PD_14 (io), M7 PD_11 (io), P9 PD_12 (io), P12 PD_16 (io), P13 PD_15 (io)
part N pins: J11 PE_4 (io), K10 PE_3 (io), L12 PE_2 (io), M12 PE_1 (io), N12 PE_0 (io)
part O pins: L8 PF_4 (io)
part P pins: A3 VSSA (power), A4 ADC6 (in), A5 ADC4 (in), A6 VDDA (power), B3 ADC2 (in), B4 ADC3 (in), B5 ADC7 (in), B6 ADC0 (in), C3 ADC5 (in), C4 ADC1 (in)
part Q pins: A7 RTCX2 (out), A8 RTCX1 (in), A9 WAKEUP0 (in), A10 RTC_ALARM (out), B8 !SAMPLE (out), B9 VBAT (power), C8 WAKEUP1 (in), E5 WAKEUP2 (in)
part R pins: B7 !RESET (in), C1 XTAL1 (in), D1 XTAL2 (out), M4 CLK0 (out), P10 CLK2 (out)
part S pins: G5 TCK (io), H4 TDI (io), J5 TDO (io), K4 DBGEN (in), K5 TMS (io), L4 !TRST (io)
part T pins: K13 I2C0_SCL (io), K14 I2C0_SDA (io)
part U pins: D7 VSS3 (power), D8 VDDREG1 (power), E6 VSS4 (power), E7 VSS5 (power), E8 VDDREG2 (power), E9 VSS6 (power), F10 VSS1 (power), G10 VSS2 (power), H5 VDDIO1 (power), H10 VDDIO2 (power), K6 VSS7 (power), K8 VDDIO3 (power), K9 VSS8 (power)
part V pins: D11 USB1_DP (io), E1 USB0_VBUS (io), E2 USB0_DP (io), E3 USB0_VDDA3V3_DRIVER (io), E11 USB1_DM (io), F1 USB0_VSSA_REF (io), F2 USB0_DM (io), F3 USB0_VDDA3V3 (io), G1 USB0_RREF (io), G2 USB0_ID (io), G3 USB0_VSSA_TERM (io)